# Altium footprint library MAX7314AEGT.PcbLib: 1 footprints
Each footprint in its own frame and in the unit in brackets; x right, y up, seen from the top. Pads: shape width x height; smd on the part's side, far side on the other; paste and mask are expansions set on the pad; w line width, h text height; cw(c..) or ccw(c..) is an arc to the next point about the centre after c.
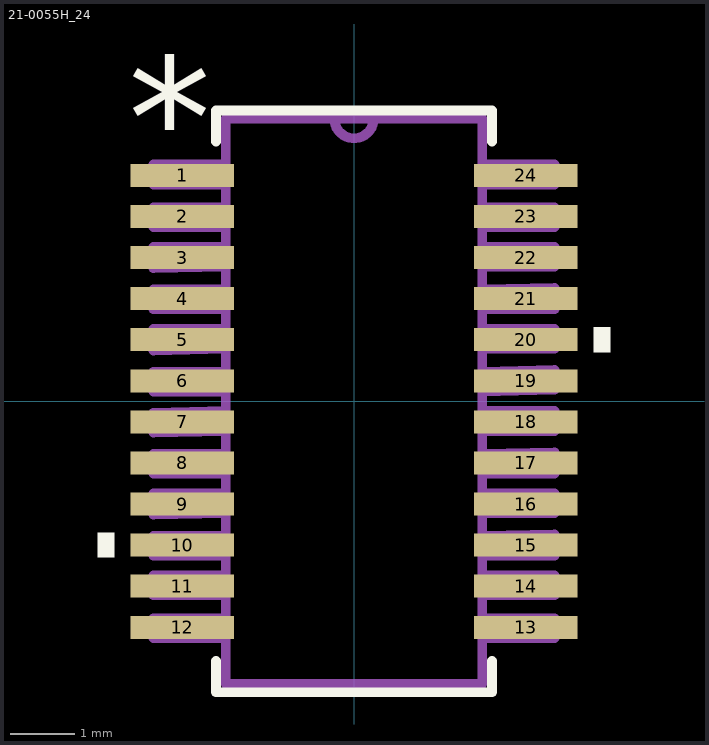
[diagram p0: the footprint, top view; thin cyan lines are the x and y axes]

## 21-0055H_24 [mil]
pads (24):
  rect 63x14 smd: 1(-104.5,137.5) 2(-104.5,112.5) 3(-104.5,87.5) 4(-104.5,62.5) 5(-104.5,37.5) 6(-104.5,12.5) 7(-104.5,-12.5) 8(-104.5,-37.5) 9(-104.5,-62.5) 10(-104.5,-87.5) 11(-104.5,-112.5) 12(-104.5,-137.5) 13(104.5,-137.5) 14(104.5,-112.5) 15(104.5,-87.5) 16(104.5,-62.5) 17(104.5,-37.5) 18(104.5,-12.5) 19(104.5,12.5) 20(104.5,37.5) 21(104.5,62.5) 22(104.5,87.5) 23(104.5,112.5) 24(104.5,137.5)
Top Overlay:
  region: 156,45 156,30 146,30 146,45
  region: -156,-80 -156,-95 -146,-95 -146,-80
  lines w6: -84,-158 -84,-177 84,-177 84,-158 ; -84,158 -84,177 84,177 84,158
  text "*" at -137.24,136.42 h73.82
Mechanical 1:
  lines w6: -12,172 ccw(c0,172) 12,172 ; -12,172 -78,172 -78,-172 78,-172 78,172 12,172 ; -12,172 12,172 ; -122,-144 -78,-144 -78,-132 -122,-132 -122,-144 ; -122,-118 -78,-118 -78,-106 -122,-106 -122,-118 ; -122,-94 -78,-94 -78,-82 -122,-82 -122,-94 ; -122,-69 -78,-68 -78,-56 -122,-56 -122,-69 ; -122,-44 -78,-44 -78,-32 -122,-32 -122,-44 ; -122,-19 -78,-18 -78,-6 -122,-7 -122,-19 ; -122,6 -78,6 -78,18 -122,18 -122,6 ; -122,31 -78,32 -78,44 -122,44 -122,31 ; -122,56 -78,56 -78,68 -122,68 -122,56 ; -122,81 -78,82 -78,94 -122,94 -122,81 ; -122,106 -78,106 -78,118 -122,118 -122,106 ; -122,132 -78,132 -78,144 -122,144 -122,132 ; 78,-144 122,-144 122,-132 78,-132 78,-144 ; 78,-118 122,-118 122,-106 78,-106 78,-118 ; 78,-94 122,-94 122,-81 78,-82 78,-94 ; 78,-68 122,-68 122,-56 78,-56 78,-68 ; 78,-44 122,-44 122,-31 78,-32 78,-44 ; 78,-18 122,-18 122,-6 78,-6 78,-18 ; 78,6 122,7 122,19 78,18 78,6 ; 78,32 122,32 122,44 78,44 78,32 ; 78,56 122,56 122,69 78,68 78,56 ; 78,82 122,82 122,94 78,94 78,82 ; 78,106 122,106 122,118 78,118 78,106 ; 78,132 122,132 122,144 78,144 78,132
  text "*" at -86.07,109.26 h73.82